# Altium schematic symbol library Common Mode Smoorspoel.SchLib: 1 symbol
Pins are listed as number, name and electrical type; pins without a type are passive.

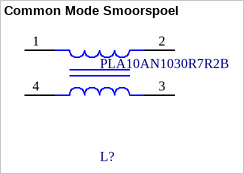
[diagram p0: symbol Common Mode Smoorspoel]

## Common Mode Smoorspoel
designator L?, comment PLA10AN1030R7R2B
Lead Diameter: 0.9mm; Voltage Rating (DC): 300V; Current: 700mA; Inductance: 10mH; Lead/Base Style: Pin; DC Resistance (DCR): 100mR; Shielding: Unshielded; Number of Lines: 2; Packaging: Bulk; Max Operating Temperature: 120°C; Depth: 16mm; Width: 0.63inch; Radiation Hardening: No; Max DC Current: 700mA; Package Quantity: 1260; Height: 17.5mm; Current Rating: 700mA; Military Standard: Not; Lead Free: Lead Free; Orientation: Vertical; DC Current: 700mA; Termination: Radial; Insulation Resistance: 100MR; Length: 18mm; Mount: Through Hole; Lead Pitch: 13mm; Min Operating Temperature: -25°C; REACH SVHC: No SVHC
footprint FP-PLA10A-PLH10A-MFG
pins: 1, 2, 3, 4